# Altium integrated library TI Interface Line Transceiver.IntLib: 631 symbols (part 13 of 17)
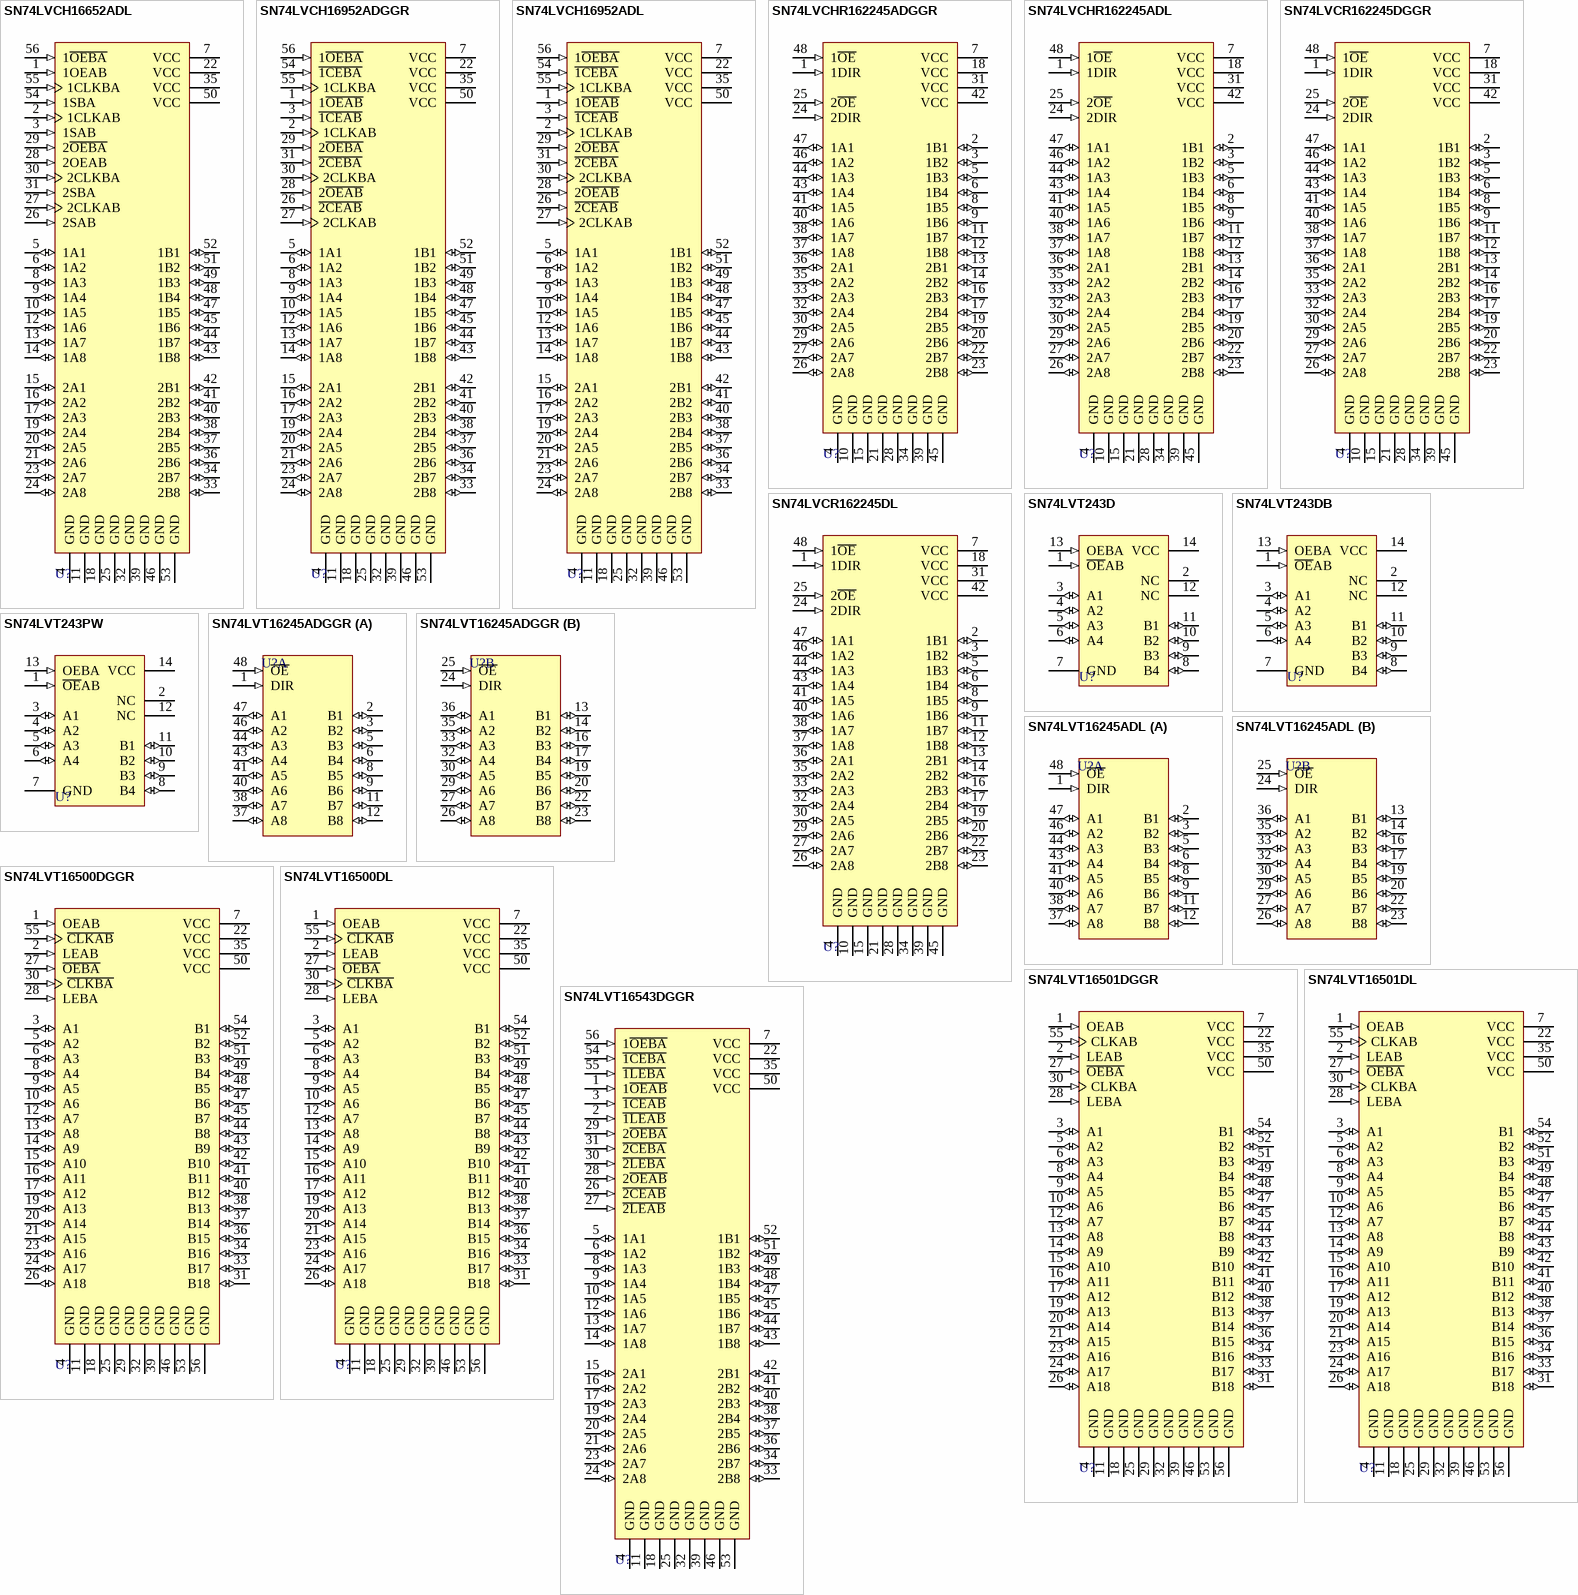
[diagram p51: symbols SN74LVCH16652ADL to SN74LVT16543DGGR]

## SN74LVT16500DGGR
designator U?
3.3-V ABT 18-Bit Universal Bus Transceiver with 3-State Outputs; Published: 8-Jun-2000; LatestRevisionDate: 04-Mar-2005; LatestRevisionNote: Stylized 3D Model Added.; DatasheetVersion: Nov-1996; PackageVersion: Jan-1998; PackageReference: DGG056; Publisher: Altium Limited; PackageDescription: Shrink Small Outline; 56 Leads; Body Width 6.1 mm; Pitch 0.5 mm; ComponentLink1Description: Manufacturer Link; ComponentLink1URL: http://www.ti.com/; ComponentLink2Description: Datasheet; ComponentLink2URL: http://www-s.ti.com/sc/ds/sn74lvt16500.pdf
footprint DGG056 (Shrink Small Outline; 56 Leads; Body Width 6.1 mm; Pitch 0.5 mm)
3D model DGG056 (Shrink Small Outline; 56 Leads; Body Width 6.1 mm; Pitch 0.5 mm)
signal-integrity model SN74LVT16500DGGR
pins: 1 OEAB (in), 2 LEAB (in), 3 A1 (io), 4 GND (power), 5 A2 (io), 6 A3 (io), 7 VCC (power), 8 A4 (io), 9 A5 (io), 10 A6 (io), 11 GND (power), 12 A7 (io), 13 A8 (io), 14 A9 (io), 15 A10 (io), 16 A11 (io), 17 A12 (io), 18 GND (power), 19 A13 (io), 20 A14 (io), 21 A15 (io), 22 VCC (power), 23 A16 (io), 24 A17 (io), 25 GND (power), 26 A18 (io), 27 ~{OEBA} (in), 28 LEBA (in), 29 GND (power), 30 ~{CLKBA} (in), 31 B18 (io), 32 GND (power), 33 B17 (io), 34 B16 (io), 35 VCC (power), 36 B15 (io), 37 B14 (io), 38 B13 (io), 39 GND (power), 40 B12 (io), 41 B11 (io), 42 B10 (io), 43 B9 (io), 44 B8 (io), 45 B7 (io), 46 GND (power), 47 B6 (io), 48 B5 (io), 49 B4 (io), 50 VCC (power), 51 B3 (io), 52 B2 (io), 53 GND (power), 54 B1 (io), 55 ~{CLKAB} (in), 56 GND (power)

## SN74LVT16500DL
designator U?
3.3-V ABT 18-Bit Universal Bus Transceiver with 3-State Outputs; Published: 8-Jun-2000; LatestRevisionDate: 04-Mar-2005; LatestRevisionNote: Stylized 3D Model Added.; DatasheetVersion: Nov-1996; PackageVersion: Dec-2001; PackageReference: DL056; Publisher: Altium Limited; PackageDescription: SSOP; 56 Leads; Body Width 7.5 mm; Pitch 0.635 mm; Code_JEDEC: MO-118-AB; Code_IPC: SSO56; ComponentLink1Description: Manufacturer Link; ComponentLink1URL: http://www.ti.com/; ComponentLink2Description: Datasheet; ComponentLink2URL: http://www-s.ti.com/sc/ds/sn74lvt16500.pdf
footprint DL056 (SSOP; 56 Leads; Body Width 7.5 mm; Pitch 0.635 mm)
3D model DL056 (SSOP; 56 Leads; Body Width 7.5 mm; Pitch 0.635 mm)
signal-integrity model SN74LVT16500DL
pins: 1 OEAB (in), 2 LEAB (in), 3 A1 (io), 4 GND (power), 5 A2 (io), 6 A3 (io), 7 VCC (power), 8 A4 (io), 9 A5 (io), 10 A6 (io), 11 GND (power), 12 A7 (io), 13 A8 (io), 14 A9 (io), 15 A10 (io), 16 A11 (io), 17 A12 (io), 18 GND (power), 19 A13 (io), 20 A14 (io), 21 A15 (io), 22 VCC (power), 23 A16 (io), 24 A17 (io), 25 GND (power), 26 A18 (io), 27 ~{OEBA} (in), 28 LEBA (in), 29 GND (power), 30 ~{CLKBA} (in), 31 B18 (io), 32 GND (power), 33 B17 (io), 34 B16 (io), 35 VCC (power), 36 B15 (io), 37 B14 (io), 38 B13 (io), 39 GND (power), 40 B12 (io), 41 B11 (io), 42 B10 (io), 43 B9 (io), 44 B8 (io), 45 B7 (io), 46 GND (power), 47 B6 (io), 48 B5 (io), 49 B4 (io), 50 VCC (power), 51 B3 (io), 52 B2 (io), 53 GND (power), 54 B1 (io), 55 ~{CLKAB} (in), 56 GND (power)

## SN74LVT16501DGGR
designator U?
3.3-V ABT 18-Bit Universal Bus Transceiver with 3-State Outputs; Published: 8-Jun-2000; LatestRevisionDate: 04-Mar-2005; LatestRevisionNote: Stylized 3D Model Added.; DatasheetVersion: Nov-1996; PackageVersion: Jan-1998; PackageReference: DGG056; Publisher: Altium Limited; PackageDescription: Shrink Small Outline; 56 Leads; Body Width 6.1 mm; Pitch 0.5 mm; ComponentLink1Description: Manufacturer Link; ComponentLink1URL: http://www.ti.com/; ComponentLink2Description: Datasheet; ComponentLink2URL: http://www-s.ti.com/sc/ds/sn74lvt16501.pdf
footprint DGG056 (Shrink Small Outline; 56 Leads; Body Width 6.1 mm; Pitch 0.5 mm)
3D model DGG056 (Shrink Small Outline; 56 Leads; Body Width 6.1 mm; Pitch 0.5 mm)
signal-integrity model SN74LVT16501DGGR
pins: 1 OEAB (in), 2 LEAB (in), 3 A1 (io), 4 GND (power), 5 A2 (io), 6 A3 (io), 7 VCC (power), 8 A4 (io), 9 A5 (io), 10 A6 (io), 11 GND (power), 12 A7 (io), 13 A8 (io), 14 A9 (io), 15 A10 (io), 16 A11 (io), 17 A12 (io), 18 GND (power), 19 A13 (io), 20 A14 (io), 21 A15 (io), 22 VCC (power), 23 A16 (io), 24 A17 (io), 25 GND (power), 26 A18 (io), 27 ~{OEBA} (in), 28 LEBA (in), 29 GND (power), 30 CLKBA (in), 31 B18 (io), 32 GND (power), 33 B17 (io), 34 B16 (io), 35 VCC (power), 36 B15 (io), 37 B14 (io), 38 B13 (io), 39 GND (power), 40 B12 (io), 41 B11 (io), 42 B10 (io), 43 B9 (io), 44 B8 (io), 45 B7 (io), 46 GND (power), 47 B6 (io), 48 B5 (io), 49 B4 (io), 50 VCC (power), 51 B3 (io), 52 B2 (io), 53 GND (power), 54 B1 (io), 55 CLKAB (in), 56 GND (power)

## SN74LVT16501DL
designator U?
3.3-V ABT 18-Bit Universal Bus Transceiver with 3-State Outputs; Published: 8-Jun-2000; LatestRevisionDate: 04-Mar-2005; LatestRevisionNote: Stylized 3D Model Added.; DatasheetVersion: Nov-1996; PackageVersion: Dec-2001; PackageReference: DL056; Publisher: Altium Limited; PackageDescription: SSOP; 56 Leads; Body Width 7.5 mm; Pitch 0.635 mm; Code_JEDEC: MO-118-AB; Code_IPC: SSO56; ComponentLink1Description: Manufacturer Link; ComponentLink1URL: http://www.ti.com/; ComponentLink2Description: Datasheet; ComponentLink2URL: http://www-s.ti.com/sc/ds/sn74lvt16501.pdf
footprint DL056 (SSOP; 56 Leads; Body Width 7.5 mm; Pitch 0.635 mm)
3D model DL056 (SSOP; 56 Leads; Body Width 7.5 mm; Pitch 0.635 mm)
signal-integrity model SN74LVT16501DL
pins: 1 OEAB (in), 2 LEAB (in), 3 A1 (io), 4 GND (power), 5 A2 (io), 6 A3 (io), 7 VCC (power), 8 A4 (io), 9 A5 (io), 10 A6 (io), 11 GND (power), 12 A7 (io), 13 A8 (io), 14 A9 (io), 15 A10 (io), 16 A11 (io), 17 A12 (io), 18 GND (power), 19 A13 (io), 20 A14 (io), 21 A15 (io), 22 VCC (power), 23 A16 (io), 24 A17 (io), 25 GND (power), 26 A18 (io), 27 ~{OEBA} (in), 28 LEBA (in), 29 GND (power), 30 CLKBA (in), 31 B18 (io), 32 GND (power), 33 B17 (io), 34 B16 (io), 35 VCC (power), 36 B15 (io), 37 B14 (io), 38 B13 (io), 39 GND (power), 40 B12 (io), 41 B11 (io), 42 B10 (io), 43 B9 (io), 44 B8 (io), 45 B7 (io), 46 GND (power), 47 B6 (io), 48 B5 (io), 49 B4 (io), 50 VCC (power), 51 B3 (io), 52 B2 (io), 53 GND (power), 54 B1 (io), 55 CLKAB (in), 56 GND (power)

## SN74LVT16543DGGR
designator U?
3.3-V ABT 16-Bit Registered Transceiver with 3-State Outputs; Published: 8-Jun-2000; LatestRevisionDate: 04-Mar-2005; LatestRevisionNote: Stylized 3D Model Added.; DatasheetVersion: Jul-1995; PackageVersion: Jan-1998; PackageReference: DGG056; Publisher: Altium Limited; PackageDescription: Shrink Small Outline; 56 Leads; Body Width 6.1 mm; Pitch 0.5 mm; ComponentLink1Description: Manufacturer Link; ComponentLink1URL: http://www.ti.com/; ComponentLink2Description: Datasheet; ComponentLink2URL: http://www-s.ti.com/sc/ds/sn74lvt16543.pdf; ComponentLink3Description: URL Link1; ComponentLink3URL: http://focus.ti.com/docs/prod/folders/print/sn74lvt16543.html
footprint DGG056 (Shrink Small Outline; 56 Leads; Body Width 6.1 mm; Pitch 0.5 mm)
3D model DGG056 (Shrink Small Outline; 56 Leads; Body Width 6.1 mm; Pitch 0.5 mm)
signal-integrity model SN74LVT16543DGGR
pins: 1 1~{OEAB} (in), 2 ~{1LEAB} (in), 3 ~{1CEAB} (in), 4 GND (power), 5 1A1 (io), 6 1A2 (io), 7 VCC (power), 8 1A3 (io), 9 1A4 (io), 10 1A5 (io), 11 GND (power), 12 1A6 (io), 13 1A7 (io), 14 1A8 (io), 15 2A1 (io), 16 2A2 (io), 17 2A3 (io), 18 GND (power), 19 2A4 (io), 20 2A5 (io), 21 2A6 (io), 22 VCC (power), 23 2A7 (io), 24 2A8 (io), 25 GND (power), 26 ~{2CEAB} (in), 27 ~{2LEAB} (in), 28 2~{OEAB} (in), 29 2~{OEBA} (in), 30 ~{2LEBA} (in), 31 ~{2CEBA} (in), 32 GND (power), 33 2B8 (io), 34 2B7 (io), 35 VCC (power), 36 2B6 (io), 37 2B5 (io), 38 2B4 (io), 39 GND (power), 40 2B3 (io), 41 2B2 (io), 42 2B1 (io), 43 1B8 (io), 44 1B7 (io), 45 1B6 (io), 46 GND (power), 47 1B5 (io), 48 1B4 (io), 49 1B3 (io), 50 VCC (power), 51 1B2 (io), 52 1B1 (io), 53 GND (power), 54 ~{1CEBA} (in), 55 ~{1LEBA} (in), 56 1~{OEBA} (in)

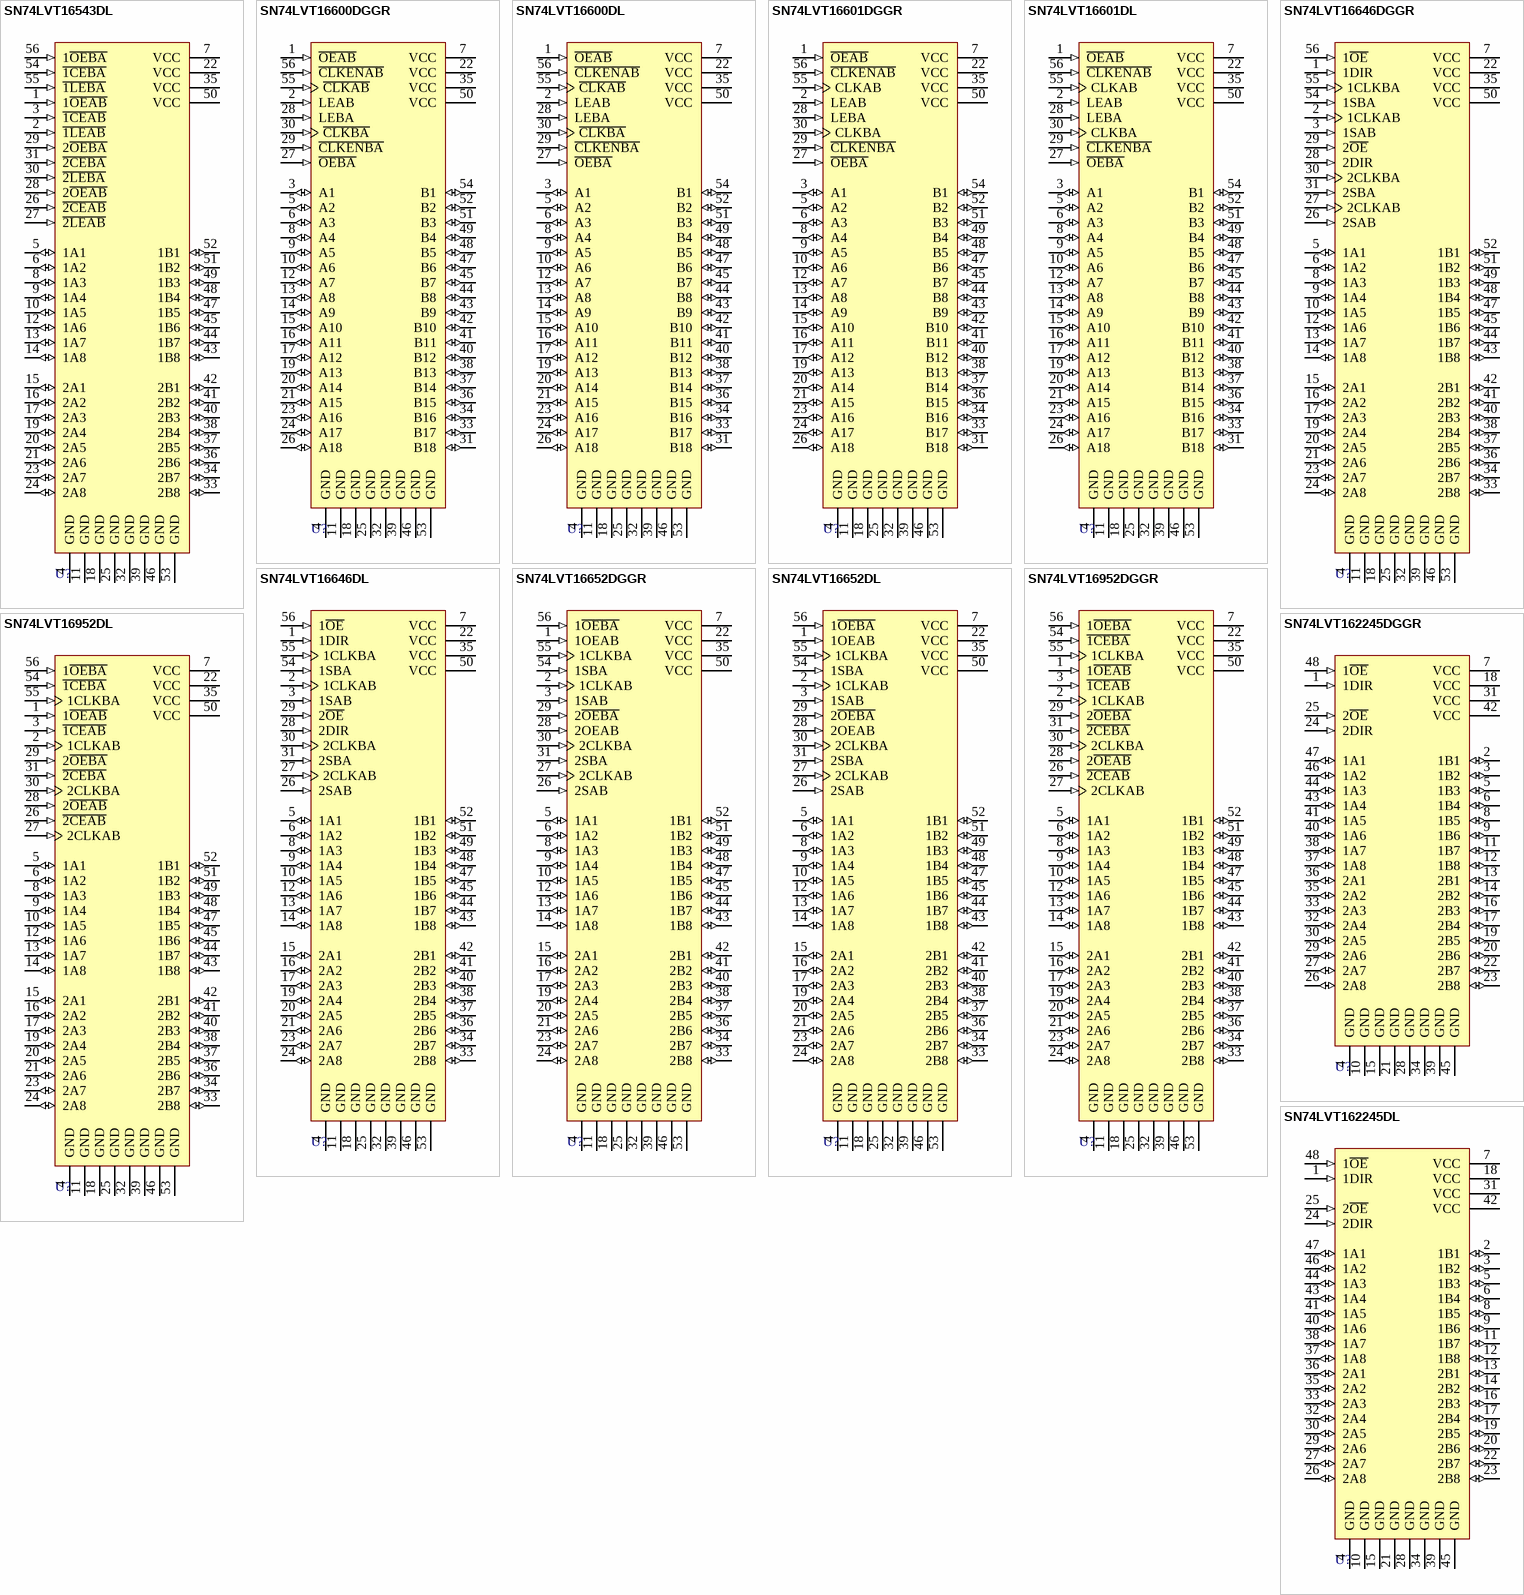
[diagram p28: symbols SN74LVT16543DL to SN74LVT162245DL]

## SN74LVT16543DL
designator U?
3.3-V ABT 16-Bit Registered Transceiver with 3-State Outputs; Published: 8-Jun-2000; LatestRevisionDate: 04-Mar-2005; LatestRevisionNote: Stylized 3D Model Added.; DatasheetVersion: Jul-1995; PackageVersion: Dec-2001; PackageReference: DL056; Publisher: Altium Limited; PackageDescription: SSOP; 56 Leads; Body Width 7.5 mm; Pitch 0.635 mm; Code_JEDEC: MO-118-AB; Code_IPC: SSO56; ComponentLink1Description: Manufacturer Link; ComponentLink1URL: http://www.ti.com/; ComponentLink2Description: Datasheet; ComponentLink2URL: http://www-s.ti.com/sc/ds/sn74lvt16543.pdf; ComponentLink3Description: URL Link1; ComponentLink3URL: http://focus.ti.com/docs/prod/folders/print/sn74lvt16543.html
footprint DL056 (SSOP; 56 Leads; Body Width 7.5 mm; Pitch 0.635 mm)
3D model DL056 (SSOP; 56 Leads; Body Width 7.5 mm; Pitch 0.635 mm)
signal-integrity model SN74LVT16543DL
pins: 1 1~{OEAB} (in), 2 ~{1LEAB} (in), 3 ~{1CEAB} (in), 4 GND (power), 5 1A1 (io), 6 1A2 (io), 7 VCC (power), 8 1A3 (io), 9 1A4 (io), 10 1A5 (io), 11 GND (power), 12 1A6 (io), 13 1A7 (io), 14 1A8 (io), 15 2A1 (io), 16 2A2 (io), 17 2A3 (io), 18 GND (power), 19 2A4 (io), 20 2A5 (io), 21 2A6 (io), 22 VCC (power), 23 2A7 (io), 24 2A8 (io), 25 GND (power), 26 ~{2CEAB} (in), 27 ~{2LEAB} (in), 28 2~{OEAB} (in), 29 2~{OEBA} (in), 30 ~{2LEBA} (in), 31 ~{2CEBA} (in), 32 GND (power), 33 2B8 (io), 34 2B7 (io), 35 VCC (power), 36 2B6 (io), 37 2B5 (io), 38 2B4 (io), 39 GND (power), 40 2B3 (io), 41 2B2 (io), 42 2B1 (io), 43 1B8 (io), 44 1B7 (io), 45 1B6 (io), 46 GND (power), 47 1B5 (io), 48 1B4 (io), 49 1B3 (io), 50 VCC (power), 51 1B2 (io), 52 1B1 (io), 53 GND (power), 54 ~{1CEBA} (in), 55 ~{1LEBA} (in), 56 1~{OEBA} (in)

## SN74LVT16600DGGR
designator U?
3.3-V ABT 18-Bit Universal Bus Transceiver with 3-State Outputs; Published: 8-Jun-2000; LatestRevisionDate: 04-Mar-2005; LatestRevisionNote: Stylized 3D Model Added.; DatasheetVersion: Jul-1995; PackageVersion: Jan-1998; PackageReference: DGG056; Publisher: Altium Limited; PackageDescription: Shrink Small Outline; 56 Leads; Body Width 6.1 mm; Pitch 0.5 mm; ComponentLink1Description: Manufacturer Link; ComponentLink1URL: http://www.ti.com/
footprint DGG056 (Shrink Small Outline; 56 Leads; Body Width 6.1 mm; Pitch 0.5 mm)
3D model DGG056 (Shrink Small Outline; 56 Leads; Body Width 6.1 mm; Pitch 0.5 mm)
signal-integrity model SN74LVT16600DGGR
pins: 1 ~{OEAB} (in), 2 LEAB (in), 3 A1 (io), 4 GND (power), 5 A2 (io), 6 A3 (io), 7 VCC (power), 8 A4 (io), 9 A5 (io), 10 A6 (io), 11 GND (power), 12 A7 (io), 13 A8 (io), 14 A9 (io), 15 A10 (io), 16 A11 (io), 17 A12 (io), 18 GND (power), 19 A13 (io), 20 A14 (io), 21 A15 (io), 22 VCC (power), 23 A16 (io), 24 A17 (io), 25 GND (power), 26 A18 (io), 27 ~{OEBA} (in), 28 LEBA (in), 29 ~{CLKENBA} (in), 30 ~{CLKBA} (in), 31 B18 (io), 32 GND (power), 33 B17 (io), 34 B16 (io), 35 VCC (power), 36 B15 (io), 37 B14 (io), 38 B13 (io), 39 GND (power), 40 B12 (io), 41 B11 (io), 42 B10 (io), 43 B9 (io), 44 B8 (io), 45 B7 (io), 46 GND (power), 47 B6 (io), 48 B5 (io), 49 B4 (io), 50 VCC (power), 51 B3 (io), 52 B2 (io), 53 GND (power), 54 B1 (io), 55 ~{CLKAB} (in), 56 ~{CLKENAB} (in)

## SN74LVT16600DL
designator U?
3.3-V ABT 18-Bit Universal Bus Transceiver with 3-State Outputs; Published: 8-Jun-2000; LatestRevisionDate: 04-Mar-2005; LatestRevisionNote: Stylized 3D Model Added.; DatasheetVersion: Jul-1995; PackageVersion: Dec-2001; PackageReference: DL056; Publisher: Altium Limited; PackageDescription: SSOP; 56 Leads; Body Width 7.5 mm; Pitch 0.635 mm; Code_JEDEC: MO-118-AB; Code_IPC: SSO56; ComponentLink1Description: Manufacturer Link; ComponentLink1URL: http://www.ti.com/
footprint DL056 (SSOP; 56 Leads; Body Width 7.5 mm; Pitch 0.635 mm)
3D model DL056 (SSOP; 56 Leads; Body Width 7.5 mm; Pitch 0.635 mm)
signal-integrity model SN74LVT16600DL
pins: 1 ~{OEAB} (in), 2 LEAB (in), 3 A1 (io), 4 GND (power), 5 A2 (io), 6 A3 (io), 7 VCC (power), 8 A4 (io), 9 A5 (io), 10 A6 (io), 11 GND (power), 12 A7 (io), 13 A8 (io), 14 A9 (io), 15 A10 (io), 16 A11 (io), 17 A12 (io), 18 GND (power), 19 A13 (io), 20 A14 (io), 21 A15 (io), 22 VCC (power), 23 A16 (io), 24 A17 (io), 25 GND (power), 26 A18 (io), 27 ~{OEBA} (in), 28 LEBA (in), 29 ~{CLKENBA} (in), 30 ~{CLKBA} (in), 31 B18 (io), 32 GND (power), 33 B17 (io), 34 B16 (io), 35 VCC (power), 36 B15 (io), 37 B14 (io), 38 B13 (io), 39 GND (power), 40 B12 (io), 41 B11 (io), 42 B10 (io), 43 B9 (io), 44 B8 (io), 45 B7 (io), 46 GND (power), 47 B6 (io), 48 B5 (io), 49 B4 (io), 50 VCC (power), 51 B3 (io), 52 B2 (io), 53 GND (power), 54 B1 (io), 55 ~{CLKAB} (in), 56 ~{CLKENAB} (in)

## SN74LVT16601DGGR
designator U?
3.3-V ABT 18-Bit Universal Bus Transceiver with 3-State Outputs; Published: 8-Jun-2000; LatestRevisionDate: 04-Mar-2005; LatestRevisionNote: Stylized 3D Model Added.; DatasheetVersion: Jul-1995; PackageVersion: Jan-1998; PackageReference: DGG056; Publisher: Altium Limited; PackageDescription: Shrink Small Outline; 56 Leads; Body Width 6.1 mm; Pitch 0.5 mm; ComponentLink1Description: Manufacturer Link; ComponentLink1URL: http://www.ti.com/
footprint DGG056 (Shrink Small Outline; 56 Leads; Body Width 6.1 mm; Pitch 0.5 mm)
3D model DGG056 (Shrink Small Outline; 56 Leads; Body Width 6.1 mm; Pitch 0.5 mm)
signal-integrity model SN74LVT16601DGGR
pins: 1 ~{OEAB} (in), 2 LEAB (in), 3 A1 (io), 4 GND (power), 5 A2 (io), 6 A3 (io), 7 VCC (power), 8 A4 (io), 9 A5 (io), 10 A6 (io), 11 GND (power), 12 A7 (io), 13 A8 (io), 14 A9 (io), 15 A10 (io), 16 A11 (io), 17 A12 (io), 18 GND (power), 19 A13 (io), 20 A14 (io), 21 A15 (io), 22 VCC (power), 23 A16 (io), 24 A17 (io), 25 GND (power), 26 A18 (io), 27 ~{OEBA} (in), 28 LEBA (in), 29 ~{CLKENBA} (in), 30 CLKBA (in), 31 B18 (io), 32 GND (power), 33 B17 (io), 34 B16 (io), 35 VCC (power), 36 B15 (io), 37 B14 (io), 38 B13 (io), 39 GND (power), 40 B12 (io), 41 B11 (io), 42 B10 (io), 43 B9 (io), 44 B8 (io), 45 B7 (io), 46 GND (power), 47 B6 (io), 48 B5 (io), 49 B4 (io), 50 VCC (power), 51 B3 (io), 52 B2 (io), 53 GND (power), 54 B1 (io), 55 CLKAB (in), 56 ~{CLKENAB} (in)

## SN74LVT16601DL
designator U?
3.3-V ABT 18-Bit Universal Bus Transceiver with 3-State Outputs; Published: 8-Jun-2000; LatestRevisionDate: 04-Mar-2005; LatestRevisionNote: Stylized 3D Model Added.; DatasheetVersion: Jul-1995; PackageVersion: Dec-2001; PackageReference: DL056; Publisher: Altium Limited; PackageDescription: SSOP; 56 Leads; Body Width 7.5 mm; Pitch 0.635 mm; Code_JEDEC: MO-118-AB; Code_IPC: SSO56; ComponentLink1Description: Manufacturer Link; ComponentLink1URL: http://www.ti.com/
footprint DL056 (SSOP; 56 Leads; Body Width 7.5 mm; Pitch 0.635 mm)
3D model DL056 (SSOP; 56 Leads; Body Width 7.5 mm; Pitch 0.635 mm)
signal-integrity model SN74LVT16601DL
pins: 1 ~{OEAB} (in), 2 LEAB (in), 3 A1 (io), 4 GND (power), 5 A2 (io), 6 A3 (io), 7 VCC (power), 8 A4 (io), 9 A5 (io), 10 A6 (io), 11 GND (power), 12 A7 (io), 13 A8 (io), 14 A9 (io), 15 A10 (io), 16 A11 (io), 17 A12 (io), 18 GND (power), 19 A13 (io), 20 A14 (io), 21 A15 (io), 22 VCC (power), 23 A16 (io), 24 A17 (io), 25 GND (power), 26 A18 (io), 27 ~{OEBA} (in), 28 LEBA (in), 29 ~{CLKENBA} (in), 30 CLKBA (in), 31 B18 (io), 32 GND (power), 33 B17 (io), 34 B16 (io), 35 VCC (power), 36 B15 (io), 37 B14 (io), 38 B13 (io), 39 GND (power), 40 B12 (io), 41 B11 (io), 42 B10 (io), 43 B9 (io), 44 B8 (io), 45 B7 (io), 46 GND (power), 47 B6 (io), 48 B5 (io), 49 B4 (io), 50 VCC (power), 51 B3 (io), 52 B2 (io), 53 GND (power), 54 B1 (io), 55 CLKAB (in), 56 ~{CLKENAB} (in)

## SN74LVT16646DGGR
designator U?
3.3-V ABT 16-Bit Bus Transceiver with 3-State Outputs; Published: 8-Jun-2000; LatestRevisionDate: 04-Mar-2005; LatestRevisionNote: Stylized 3D Model Added.; DatasheetVersion: Jul-1995; PackageVersion: Jan-1998; PackageReference: DGG056; Publisher: Altium Limited; PackageDescription: Shrink Small Outline; 56 Leads; Body Width 6.1 mm; Pitch 0.5 mm; ComponentLink1Description: Manufacturer Link; ComponentLink1URL: http://www.ti.com/; ComponentLink2Description: Datasheet; ComponentLink2URL: http://www-s.ti.com/sc/ds/sn74lvt16646.pdf
footprint DGG056 (Shrink Small Outline; 56 Leads; Body Width 6.1 mm; Pitch 0.5 mm)
3D model DGG056 (Shrink Small Outline; 56 Leads; Body Width 6.1 mm; Pitch 0.5 mm)
signal-integrity model SN74LVT16646DGGR
pins: 1 1DIR (in), 2 1CLKAB (in), 3 1SAB (in), 4 GND (power), 5 1A1 (io), 6 1A2 (io), 7 VCC (power), 8 1A3 (io), 9 1A4 (io), 10 1A5 (io), 11 GND (power), 12 1A6 (io), 13 1A7 (io), 14 1A8 (io), 15 2A1 (io), 16 2A2 (io), 17 2A3 (io), 18 GND (power), 19 2A4 (io), 20 2A5 (io), 21 2A6 (io), 22 VCC (power), 23 2A7 (io), 24 2A8 (io), 25 GND (power), 26 2SAB (in), 27 2CLKAB (in), 28 2DIR (in), 29 2~{OE} (in), 30 2CLKBA (in), 31 2SBA (in), 32 GND (power), 33 2B8 (io), 34 2B7 (io), 35 VCC (power), 36 2B6 (io), 37 2B5 (io), 38 2B4 (io), 39 GND (power), 40 2B3 (io), 41 2B2 (io), 42 2B1 (io), 43 1B8 (io), 44 1B7 (io), 45 1B6 (io), 46 GND (power), 47 1B5 (io), 48 1B4 (io), 49 1B3 (io), 50 VCC (power), 51 1B2 (io), 52 1B1 (io), 53 GND (power), 54 1SBA (in), 55 1CLKBA (in), 56 1~{OE} (in)

## SN74LVT16646DL
designator U?
3.3-V ABT 16-Bit Bus Transceiver with 3-State Outputs; Published: 8-Jun-2000; LatestRevisionDate: 04-Mar-2005; LatestRevisionNote: Stylized 3D Model Added.; DatasheetVersion: Jul-1995; PackageVersion: Dec-2001; PackageReference: DL056; Publisher: Altium Limited; PackageDescription: SSOP; 56 Leads; Body Width 7.5 mm; Pitch 0.635 mm; Code_JEDEC: MO-118-AB; Code_IPC: SSO56; ComponentLink1Description: Manufacturer Link; ComponentLink1URL: http://www.ti.com/; ComponentLink2Description: Datasheet; ComponentLink2URL: http://www-s.ti.com/sc/ds/sn74lvt16646.pdf
footprint DL056 (SSOP; 56 Leads; Body Width 7.5 mm; Pitch 0.635 mm)
3D model DL056 (SSOP; 56 Leads; Body Width 7.5 mm; Pitch 0.635 mm)
signal-integrity model SN74LVT16646DL
pins: 1 1DIR (in), 2 1CLKAB (in), 3 1SAB (in), 4 GND (power), 5 1A1 (io), 6 1A2 (io), 7 VCC (power), 8 1A3 (io), 9 1A4 (io), 10 1A5 (io), 11 GND (power), 12 1A6 (io), 13 1A7 (io), 14 1A8 (io), 15 2A1 (io), 16 2A2 (io), 17 2A3 (io), 18 GND (power), 19 2A4 (io), 20 2A5 (io), 21 2A6 (io), 22 VCC (power), 23 2A7 (io), 24 2A8 (io), 25 GND (power), 26 2SAB (in), 27 2CLKAB (in), 28 2DIR (in), 29 2~{OE} (in), 30 2CLKBA (in), 31 2SBA (in), 32 GND (power), 33 2B8 (io), 34 2B7 (io), 35 VCC (power), 36 2B6 (io), 37 2B5 (io), 38 2B4 (io), 39 GND (power), 40 2B3 (io), 41 2B2 (io), 42 2B1 (io), 43 1B8 (io), 44 1B7 (io), 45 1B6 (io), 46 GND (power), 47 1B5 (io), 48 1B4 (io), 49 1B3 (io), 50 VCC (power), 51 1B2 (io), 52 1B1 (io), 53 GND (power), 54 1SBA (in), 55 1CLKBA (in), 56 1~{OE} (in)

## SN74LVT16652DGGR
designator U?
3.3-V ABT 16-Bit Transceiver and Register with 3-State Outputs; Published: 8-Jun-2000; LatestRevisionDate: 04-Mar-2005; LatestRevisionNote: Stylized 3D Model Added.; DatasheetVersion: Feb-1996; PackageVersion: Jan-1998; PackageReference: DGG056; Publisher: Altium Limited; PackageDescription: Shrink Small Outline; 56 Leads; Body Width 6.1 mm; Pitch 0.5 mm; ComponentLink1Description: Manufacturer Link; ComponentLink1URL: http://www.ti.com/
footprint DGG056 (Shrink Small Outline; 56 Leads; Body Width 6.1 mm; Pitch 0.5 mm)
3D model DGG056 (Shrink Small Outline; 56 Leads; Body Width 6.1 mm; Pitch 0.5 mm)
signal-integrity model SN74LVT16652DGGR
pins: 1 1OEAB (in), 2 1CLKAB (in), 3 1SAB (in), 4 GND (power), 5 1A1 (io), 6 1A2 (io), 7 VCC (power), 8 1A3 (io), 9 1A4 (io), 10 1A5 (io), 11 GND (power), 12 1A6 (io), 13 1A7 (io), 14 1A8 (io), 15 2A1 (io), 16 2A2 (io), 17 2A3 (io), 18 GND (power), 19 2A4 (io), 20 2A5 (io), 21 2A6 (io), 22 VCC (power), 23 2A7 (io), 24 2A8 (io), 25 GND (power), 26 2SAB (in), 27 2CLKAB (in), 28 2OEAB (in), 29 2~{OEBA} (in), 30 2CLKBA (in), 31 2SBA (in), 32 GND (power), 33 2B8 (io), 34 2B7 (io), 35 VCC (power), 36 2B6 (io), 37 2B5 (io), 38 2B4 (io), 39 GND (power), 40 2B3 (io), 41 2B2 (io), 42 2B1 (io), 43 1B8 (io), 44 1B7 (io), 45 1B6 (io), 46 GND (power), 47 1B5 (io), 48 1B4 (io), 49 1B3 (io), 50 VCC (power), 51 1B2 (io), 52 1B1 (io), 53 GND (power), 54 1SBA (in), 55 1CLKBA (in), 56 1~{OEBA} (in)

## SN74LVT16652DL
designator U?
3.3-V ABT 16-Bit Transceiver and Register with 3-State Outputs; Published: 8-Jun-2000; LatestRevisionDate: 04-Mar-2005; LatestRevisionNote: Stylized 3D Model Added.; DatasheetVersion: Feb-1996; PackageVersion: Dec-2001; PackageReference: DL056; Publisher: Altium Limited; PackageDescription: SSOP; 56 Leads; Body Width 7.5 mm; Pitch 0.635 mm; Code_JEDEC: MO-118-AB; Code_IPC: SSO56; ComponentLink1Description: Manufacturer Link; ComponentLink1URL: http://www.ti.com/
footprint DL056 (SSOP; 56 Leads; Body Width 7.5 mm; Pitch 0.635 mm)
3D model DL056 (SSOP; 56 Leads; Body Width 7.5 mm; Pitch 0.635 mm)
signal-integrity model SN74LVT16652DL
pins: 1 1OEAB (in), 2 1CLKAB (in), 3 1SAB (in), 4 GND (power), 5 1A1 (io), 6 1A2 (io), 7 VCC (power), 8 1A3 (io), 9 1A4 (io), 10 1A5 (io), 11 GND (power), 12 1A6 (io), 13 1A7 (io), 14 1A8 (io), 15 2A1 (io), 16 2A2 (io), 17 2A3 (io), 18 GND (power), 19 2A4 (io), 20 2A5 (io), 21 2A6 (io), 22 VCC (power), 23 2A7 (io), 24 2A8 (io), 25 GND (power), 26 2SAB (in), 27 2CLKAB (in), 28 2OEAB (in), 29 2~{OEBA} (in), 30 2CLKBA (in), 31 2SBA (in), 32 GND (power), 33 2B8 (io), 34 2B7 (io), 35 VCC (power), 36 2B6 (io), 37 2B5 (io), 38 2B4 (io), 39 GND (power), 40 2B3 (io), 41 2B2 (io), 42 2B1 (io), 43 1B8 (io), 44 1B7 (io), 45 1B6 (io), 46 GND (power), 47 1B5 (io), 48 1B4 (io), 49 1B3 (io), 50 VCC (power), 51 1B2 (io), 52 1B1 (io), 53 GND (power), 54 1SBA (in), 55 1CLKBA (in), 56 1~{OEBA} (in)

## SN74LVT16952DGGR
designator U?
3.3-V ABT 16-Bit Registered Transceiver with 3-State Outputs; Published: 8-Jun-2000; LatestRevisionDate: 04-Mar-2005; LatestRevisionNote: Stylized 3D Model Added.; DatasheetVersion: Aug-1996; PackageVersion: Jan-1998; PackageReference: DGG056; Publisher: Altium Limited; PackageDescription: Shrink Small Outline; 56 Leads; Body Width 6.1 mm; Pitch 0.5 mm; ComponentLink1Description: Manufacturer Link; ComponentLink1URL: http://www.ti.com/; ComponentLink2Description: Datasheet; ComponentLink2URL: http://www-s.ti.com/sc/ds/sn74lvt16952.pdf
footprint DGG056 (Shrink Small Outline; 56 Leads; Body Width 6.1 mm; Pitch 0.5 mm)
3D model DGG056 (Shrink Small Outline; 56 Leads; Body Width 6.1 mm; Pitch 0.5 mm)
signal-integrity model SN74LVT16952DGGR
pins: 1 1~{OEAB} (in), 2 1CLKAB (in), 3 ~{1CEAB} (in), 4 GND (power), 5 1A1 (io), 6 1A2 (io), 7 VCC (power), 8 1A3 (io), 9 1A4 (io), 10 1A5 (io), 11 GND (power), 12 1A6 (io), 13 1A7 (io), 14 1A8 (io), 15 2A1 (io), 16 2A2 (io), 17 2A3 (io), 18 GND (power), 19 2A4 (io), 20 2A5 (io), 21 2A6 (io), 22 VCC (power), 23 2A7 (io), 24 2A8 (io), 25 GND (power), 26 ~{2CEAB} (in), 27 2CLKAB (in), 28 2~{OEAB} (in), 29 2~{OEBA} (in), 30 2CLKBA (in), 31 ~{2CEBA} (in), 32 GND (power), 33 2B8 (io), 34 2B7 (io), 35 VCC (power), 36 2B6 (io), 37 2B5 (io), 38 2B4 (io), 39 GND (power), 40 2B3 (io), 41 2B2 (io), 42 2B1 (io), 43 1B8 (io), 44 1B7 (io), 45 1B6 (io), 46 GND (power), 47 1B5 (io), 48 1B4 (io), 49 1B3 (io), 50 VCC (power), 51 1B2 (io), 52 1B1 (io), 53 GND (power), 54 ~{1CEBA} (in), 55 1CLKBA (in), 56 1~{OEBA} (in)

## SN74LVT16952DL
designator U?
3.3-V ABT 16-Bit Registered Transceiver with 3-State Outputs; Published: 8-Jun-2000; LatestRevisionDate: 04-Mar-2005; LatestRevisionNote: Stylized 3D Model Added.; DatasheetVersion: Aug-1996; PackageVersion: Dec-2001; PackageReference: DL056; Publisher: Altium Limited; PackageDescription: SSOP; 56 Leads; Body Width 7.5 mm; Pitch 0.635 mm; Code_JEDEC: MO-118-AB; Code_IPC: SSO56; ComponentLink1Description: Manufacturer Link; ComponentLink1URL: http://www.ti.com/; ComponentLink2Description: Datasheet; ComponentLink2URL: http://www-s.ti.com/sc/ds/sn74lvt16952.pdf
footprint DL056 (SSOP; 56 Leads; Body Width 7.5 mm; Pitch 0.635 mm)
3D model DL056 (SSOP; 56 Leads; Body Width 7.5 mm; Pitch 0.635 mm)
signal-integrity model SN74LVT16952DL
pins: 1 1~{OEAB} (in), 2 1CLKAB (in), 3 ~{1CEAB} (in), 4 GND (power), 5 1A1 (io), 6 1A2 (io), 7 VCC (power), 8 1A3 (io), 9 1A4 (io), 10 1A5 (io), 11 GND (power), 12 1A6 (io), 13 1A7 (io), 14 1A8 (io), 15 2A1 (io), 16 2A2 (io), 17 2A3 (io), 18 GND (power), 19 2A4 (io), 20 2A5 (io), 21 2A6 (io), 22 VCC (power), 23 2A7 (io), 24 2A8 (io), 25 GND (power), 26 ~{2CEAB} (in), 27 2CLKAB (in), 28 2~{OEAB} (in), 29 2~{OEBA} (in), 30 2CLKBA (in), 31 ~{2CEBA} (in), 32 GND (power), 33 2B8 (io), 34 2B7 (io), 35 VCC (power), 36 2B6 (io), 37 2B5 (io), 38 2B4 (io), 39 GND (power), 40 2B3 (io), 41 2B2 (io), 42 2B1 (io), 43 1B8 (io), 44 1B7 (io), 45 1B6 (io), 46 GND (power), 47 1B5 (io), 48 1B4 (io), 49 1B3 (io), 50 VCC (power), 51 1B2 (io), 52 1B1 (io), 53 GND (power), 54 ~{1CEBA} (in), 55 1CLKBA (in), 56 1~{OEBA} (in)

## SN74LVT162245DGGR
designator U?
3.3-V ABT 16-Bit Bus Transceiver with 3-State Outputs; Published: 8-Jun-2000; LatestRevisionDate: 04-Mar-2005; LatestRevisionNote: Stylized 3D Model Added.; DatasheetVersion: Nov-1995; PackageVersion: Jan-1998; PackageReference: DGG048; Publisher: Altium Limited; PackageDescription: Shrink Small Outline; 48 Leads; Body Width 6.1 mm; Pitch 0.5 mm; ComponentLink1Description: Manufacturer Link; ComponentLink1URL: http://www.ti.com/; ComponentLink2Description: URL Link1; ComponentLink2URL: http://focus.ti.com/docs/prod/folders/print/sn74lvt162245.html
footprint DGG048 (Shrink Small Outline; 48 Leads; Body Width 6.1 mm; Pitch 0.5 mm)
3D model DGG048 (Shrink Small Outline; 48 Leads; Body Width 6.1 mm; Pitch 0.5 mm)
signal-integrity model SN74LVT162245DGGR
pins: 1 1DIR (in), 2 1B1 (io), 3 1B2 (io), 4 GND (power), 5 1B3 (io), 6 1B4 (io), 7 VCC (power), 8 1B5 (io), 9 1B6 (io), 10 GND (power), 11 1B7 (io), 12 1B8 (io), 13 2B1 (io), 14 2B2 (io), 15 GND (power), 16 2B3 (io), 17 2B4 (io), 18 VCC (power), 19 2B5 (io), 20 2B6 (io), 21 GND (power), 22 2B7 (io), 23 2B8 (io), 24 2DIR (in), 25 2~{OE} (in), 26 2A8 (io), 27 2A7 (io), 28 GND (power), 29 2A6 (io), 30 2A5 (io), 31 VCC (power), 32 2A4 (io), 33 2A3 (io), 34 GND (power), 35 2A2 (io), 36 2A1 (io), 37 1A8 (io), 38 1A7 (io), 39 GND (power), 40 1A6 (io), 41 1A5 (io), 42 VCC (power), 43 1A4 (io), 44 1A3 (io), 45 GND (power), 46 1A2 (io), 47 1A1 (io), 48 1~{OE} (in)

## SN74LVT162245DL
designator U?
3.3-V ABT 16-Bit Bus Transceiver with 3-State Outputs; Published: 8-Jun-2000; LatestRevisionDate: 04-Mar-2005; LatestRevisionNote: Stylized 3D Model Added.; DatasheetVersion: Nov-1995; PackageVersion: Dec-2001; PackageReference: DL048; Publisher: Altium Limited; PackageDescription: SSOP; 48 Leads; Body Width 7.5 mm; Pitch 0.635 mm; Code_JEDEC: MO-118-AA; Code_IPC: SSO48; ComponentLink1Description: Manufacturer Link; ComponentLink1URL: http://www.ti.com/; ComponentLink2Description: URL Link1; ComponentLink2URL: http://focus.ti.com/docs/prod/folders/print/sn74lvt162245.html
footprint DL048 (SSOP; 48 Leads; Body Width 7.5 mm; Pitch 0.635 mm)
3D model DL048 (SSOP; 48 Leads; Body Width 7.5 mm; Pitch 0.635 mm)
signal-integrity model SN74LVT162245DL
pins: 1 1DIR (in), 2 1B1 (io), 3 1B2 (io), 4 GND (power), 5 1B3 (io), 6 1B4 (io), 7 VCC (power), 8 1B5 (io), 9 1B6 (io), 10 GND (power), 11 1B7 (io), 12 1B8 (io), 13 2B1 (io), 14 2B2 (io), 15 GND (power), 16 2B3 (io), 17 2B4 (io), 18 VCC (power), 19 2B5 (io), 20 2B6 (io), 21 GND (power), 22 2B7 (io), 23 2B8 (io), 24 2DIR (in), 25 2~{OE} (in), 26 2A8 (io), 27 2A7 (io), 28 GND (power), 29 2A6 (io), 30 2A5 (io), 31 VCC (power), 32 2A4 (io), 33 2A3 (io), 34 GND (power), 35 2A2 (io), 36 2A1 (io), 37 1A8 (io), 38 1A7 (io), 39 GND (power), 40 1A6 (io), 41 1A5 (io), 42 VCC (power), 43 1A4 (io), 44 1A3 (io), 45 GND (power), 46 1A2 (io), 47 1A1 (io), 48 1~{OE} (in)

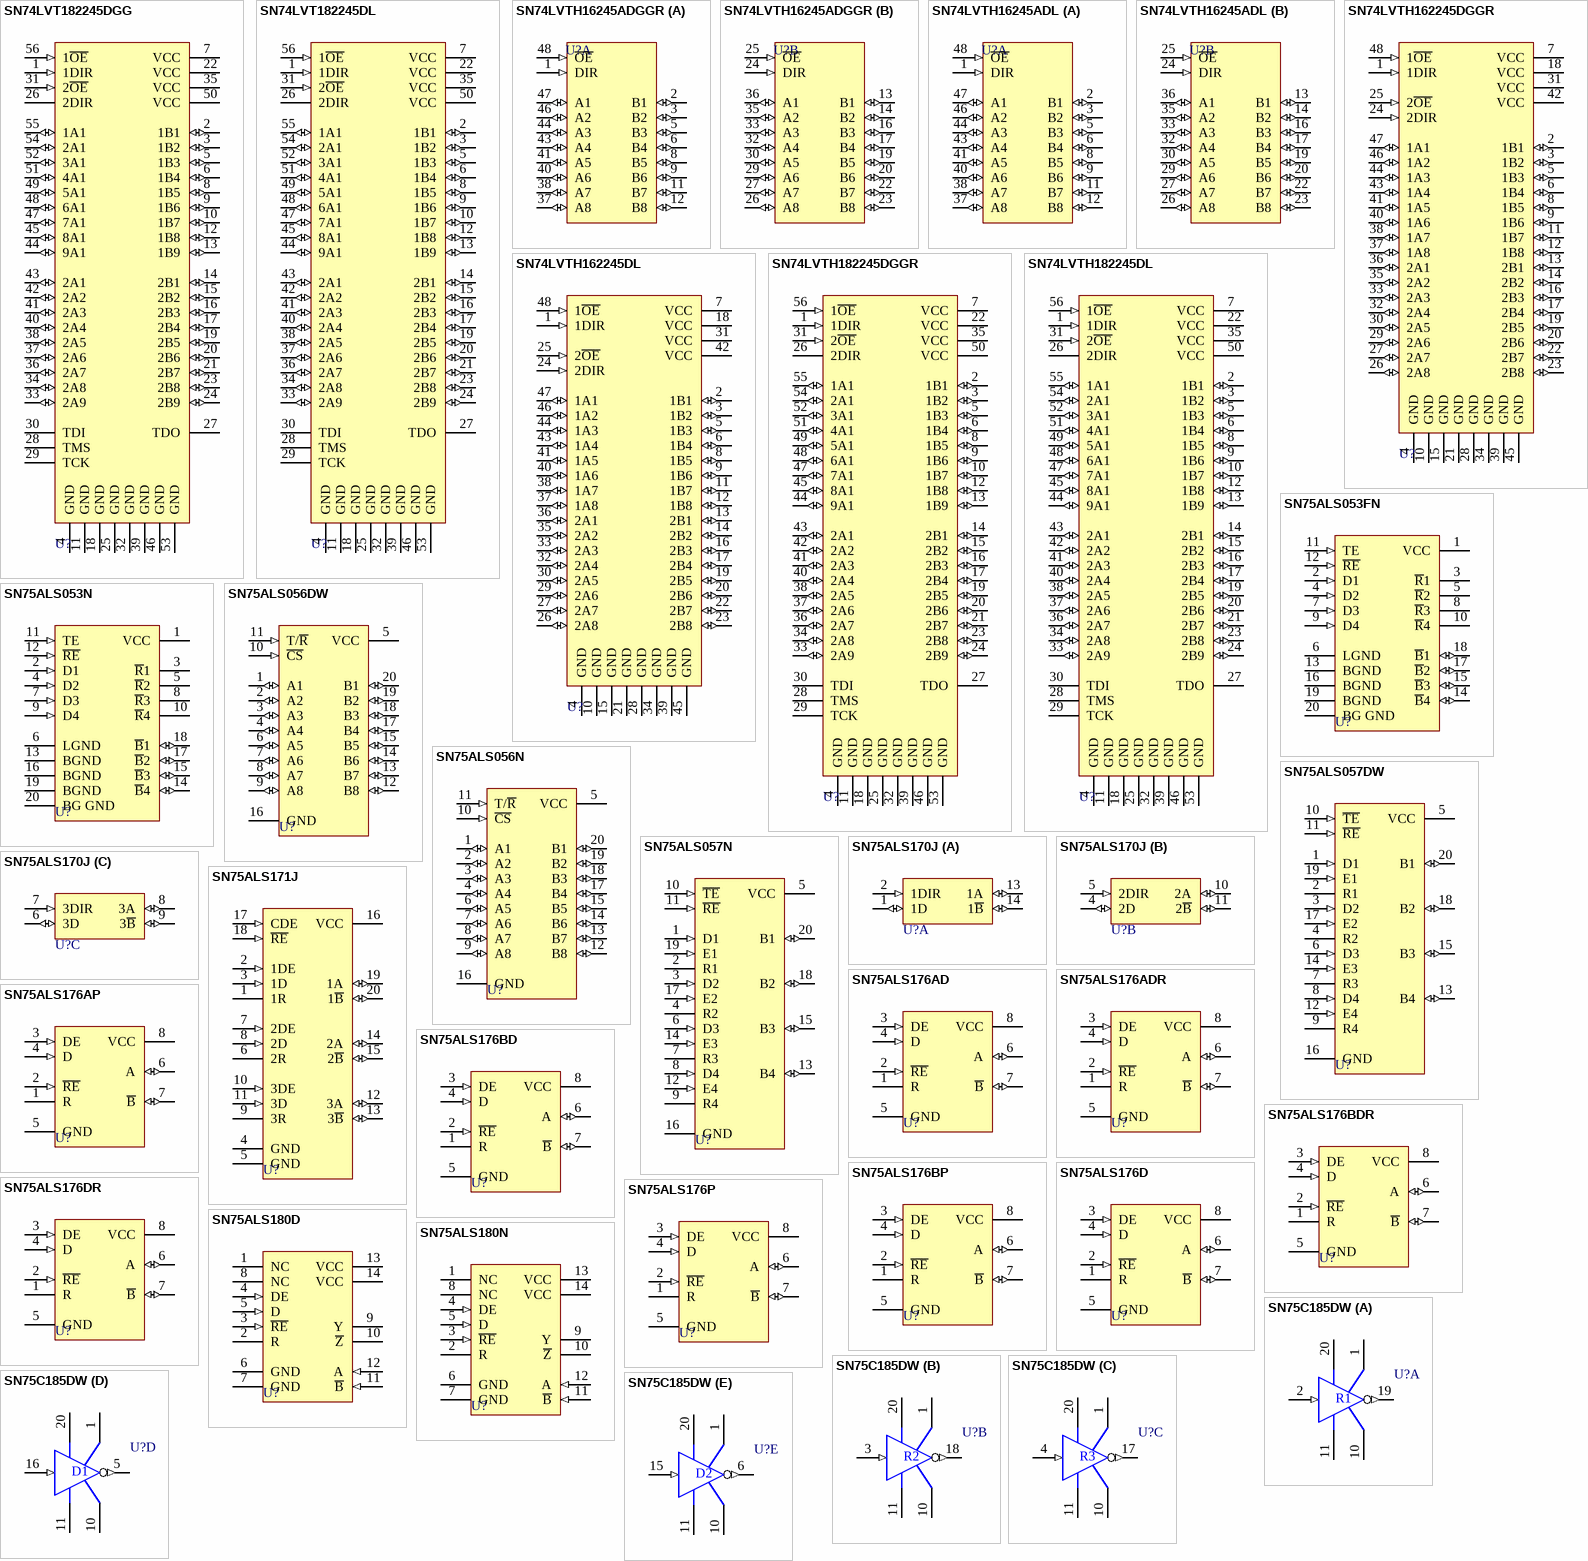
[diagram p29: symbols SN74LVT182245DGG to SN75C185DW]

## SN74LVT182245DGG
designator U?
3.3-V ABT Scan Test Device with 18-Bit Bus Transceiver; Published: 8-Jun-2000; LatestRevisionDate: 04-Mar-2005; LatestRevisionNote: Stylized 3D Model Added.; DatasheetVersion: Aug-1994; PackageVersion: Jan-1998; PackageReference: DGG056; Publisher: Altium Limited; PackageDescription: Shrink Small Outline; 56 Leads; Body Width 6.1 mm; Pitch 0.5 mm; ComponentLink1Description: Manufacturer Link; ComponentLink1URL: http://www.ti.com/
footprint DGG056 (Shrink Small Outline; 56 Leads; Body Width 6.1 mm; Pitch 0.5 mm)
3D model DGG056 (Shrink Small Outline; 56 Leads; Body Width 6.1 mm; Pitch 0.5 mm)
signal-integrity model SN74LVT182245DGG
pins: 1 1DIR (in), 2 1B1 (io), 3 1B2 (io), 4 GND (power), 5 1B3 (io), 6 1B4 (io), 7 VCC (power), 8 1B5 (io), 9 1B6 (io), 10 1B7 (io), 11 GND (power), 12 1B8 (io), 13 1B9 (io), 14 2B1 (io), 15 2B2 (io), 16 2B3 (io), 17 2B4 (io), 18 GND (power), 19 2B5 (io), 20 2B6 (io), 21 2B7 (io), 22 VCC (power), 23 2B8 (io), 24 2B9 (io), 25 GND (power), 26 2DIR, 27 TDO, 28 TMS, 29 TCK, 30 TDI, 31 2~{OE} (in), 32 GND (power), 33 2A9 (io), 34 2A8 (io), 35 VCC (power), 36 2A7 (io), 37 2A6 (io), 38 2A5 (io), 39 GND (power), 40 2A4 (io), 41 2A3 (io), 42 2A2 (io), 43 2A1 (io), 44 9A1 (io), 45 8A1 (io), 46 GND (power), 47 7A1 (io), 48 6A1 (io), 49 5A1 (io), 50 VCC (power), 51 4A1 (io), 52 3A1 (io), 53 GND (power), 54 2A1 (io), 55 1A1 (io), 56 1~{OE} (in)

## SN74LVT182245DL
designator U?
3.3-V ABT Scan Test Device with 18-Bit Bus Transceiver; Published: 8-Jun-2000; LatestRevisionDate: 04-Mar-2005; LatestRevisionNote: Stylized 3D Model Added.; DatasheetVersion: Aug-1994; PackageVersion: Dec-2001; PackageReference: DL056; Publisher: Altium Limited; PackageDescription: SSOP; 56 Leads; Body Width 7.5 mm; Pitch 0.635 mm; Code_JEDEC: MO-118-AB; Code_IPC: SSO56; ComponentLink1Description: Manufacturer Link; ComponentLink1URL: http://www.ti.com/
footprint DL056 (SSOP; 56 Leads; Body Width 7.5 mm; Pitch 0.635 mm)
3D model DL056 (SSOP; 56 Leads; Body Width 7.5 mm; Pitch 0.635 mm)
signal-integrity model SN74LVT182245DL
pins: 1 1DIR (in), 2 1B1 (io), 3 1B2 (io), 4 GND (power), 5 1B3 (io), 6 1B4 (io), 7 VCC (power), 8 1B5 (io), 9 1B6 (io), 10 1B7 (io), 11 GND (power), 12 1B8 (io), 13 1B9 (io), 14 2B1 (io), 15 2B2 (io), 16 2B3 (io), 17 2B4 (io), 18 GND (power), 19 2B5 (io), 20 2B6 (io), 21 2B7 (io), 22 VCC (power), 23 2B8 (io), 24 2B9 (io), 25 GND (power), 26 2DIR, 27 TDO, 28 TMS, 29 TCK, 30 TDI, 31 2~{OE} (in), 32 GND (power), 33 2A9 (io), 34 2A8 (io), 35 VCC (power), 36 2A7 (io), 37 2A6 (io), 38 2A5 (io), 39 GND (power), 40 2A4 (io), 41 2A3 (io), 42 2A2 (io), 43 2A1 (io), 44 9A1 (io), 45 8A1 (io), 46 GND (power), 47 7A1 (io), 48 6A1 (io), 49 5A1 (io), 50 VCC (power), 51 4A1 (io), 52 3A1 (io), 53 GND (power), 54 2A1 (io), 55 1A1 (io), 56 1~{OE} (in)

## SN74LVTH16245ADGGR
designator U?
3.3-V ABT 16-Bit Bus Transceiver with 3-State Outputs; Published: 8-Jun-2000; LatestRevisionDate: 04-Mar-2005; LatestRevisionNote: Stylized 3D Model Added.; DatasheetVersion: Apr-1999; PackageVersion: Jan-1998; PackageReference: DGG048; Publisher: Altium Limited; PackageDescription: Shrink Small Outline; 48 Leads; Body Width 6.1 mm; Pitch 0.5 mm; ComponentLink1Description: Manufacturer Link; ComponentLink1URL: http://www.ti.com/; ComponentLink2Description: Datasheet; ComponentLink2URL: http://www-s.ti.com/sc/ds/sn74lvth16245a.pdf
footprint DGG048 (Shrink Small Outline; 48 Leads; Body Width 6.1 mm; Pitch 0.5 mm)
3D model DGG048 (Shrink Small Outline; 48 Leads; Body Width 6.1 mm; Pitch 0.5 mm)
pins on every part: 4 GND (power) hidden to GND, 7 VCC (power) hidden to VCC, 10 GND (power) hidden to GND, 15 GND (power) hidden to GND, 18 VCC (power) hidden to VCC, 21 GND (power) hidden to GND, 28 GND (power) hidden to GND, 31 VCC (power) hidden to VCC, 34 GND (power) hidden to GND, 39 GND (power) hidden to GND, 42 VCC (power) hidden to VCC, 45 GND (power) hidden to GND
part A pins: 1 DIR (in), 2 B1 (io), 3 B2 (io), 5 B3 (io), 6 B4 (io), 8 B5 (io), 9 B6 (io), 11 B7 (io), 12 B8 (io), 37 A8 (io), 38 A7 (io), 40 A6 (io), 41 A5 (io), 43 A4 (io), 44 A3 (io), 46 A2 (io), 47 A1 (io), 48 ~{OE} (in)
part B pins: 13 B1 (io), 14 B2 (io), 16 B3 (io), 17 B4 (io), 19 B5 (io), 20 B6 (io), 22 B7 (io), 23 B8 (io), 24 DIR (in), 25 ~{OE} (in), 26 A8 (io), 27 A7 (io), 29 A6 (io), 30 A5 (io), 32 A4 (io), 33 A3 (io), 35 A2 (io), 36 A1 (io)

## SN74LVTH16245ADL
designator U?
3.3-V ABT 16-Bit Bus Transceiver with 3-State Outputs; Published: 8-Jun-2000; LatestRevisionDate: 04-Mar-2005; LatestRevisionNote: Stylized 3D Model Added.; DatasheetVersion: Apr-1999; PackageVersion: Dec-2001; PackageReference: DL048; Publisher: Altium Limited; PackageDescription: SSOP; 48 Leads; Body Width 7.5 mm; Pitch 0.635 mm; Code_JEDEC: MO-118-AA; Code_IPC: SSO48; ComponentLink1Description: Manufacturer Link; ComponentLink1URL: http://www.ti.com/; ComponentLink2Description: Datasheet; ComponentLink2URL: http://www-s.ti.com/sc/ds/sn74lvth16245a.pdf
footprint DL048 (SSOP; 48 Leads; Body Width 7.5 mm; Pitch 0.635 mm)
3D model DL048 (SSOP; 48 Leads; Body Width 7.5 mm; Pitch 0.635 mm)
pins on every part: 4 GND (power) hidden to GND, 7 VCC (power) hidden to VCC, 10 GND (power) hidden to GND, 15 GND (power) hidden to GND, 18 VCC (power) hidden to VCC, 21 GND (power) hidden to GND, 28 GND (power) hidden to GND, 31 VCC (power) hidden to VCC, 34 GND (power) hidden to GND, 39 GND (power) hidden to GND, 42 VCC (power) hidden to VCC, 45 GND (power) hidden to GND
part A pins: 1 DIR (in), 2 B1 (io), 3 B2 (io), 5 B3 (io), 6 B4 (io), 8 B5 (io), 9 B6 (io), 11 B7 (io), 12 B8 (io), 37 A8 (io), 38 A7 (io), 40 A6 (io), 41 A5 (io), 43 A4 (io), 44 A3 (io), 46 A2 (io), 47 A1 (io), 48 ~{OE} (in)
part B pins: 13 B1 (io), 14 B2 (io), 16 B3 (io), 17 B4 (io), 19 B5 (io), 20 B6 (io), 22 B7 (io), 23 B8 (io), 24 DIR (in), 25 ~{OE} (in), 26 A8 (io), 27 A7 (io), 29 A6 (io), 30 A5 (io), 32 A4 (io), 33 A3 (io), 35 A2 (io), 36 A1 (io)

## SN74LVTH162245DGGR
designator U?
3.3-V ABT 16-Bit Bus Transceiver with 3-State Outputs; Published: 8-Jun-2000; LatestRevisionDate: 04-Mar-2005; LatestRevisionNote: Stylized 3D Model Added.; DatasheetVersion: Apr-1999; PackageVersion: Jan-1998; PackageReference: DGG048; Publisher: Altium Limited; PackageDescription: Shrink Small Outline; 48 Leads; Body Width 6.1 mm; Pitch 0.5 mm; ComponentLink1Description: Manufacturer Link; ComponentLink1URL: http://www.ti.com/; ComponentLink2Description: Datasheet; ComponentLink2URL: http://www-s.ti.com/sc/ds/sn74lvth162245.pdf
footprint DGG048 (Shrink Small Outline; 48 Leads; Body Width 6.1 mm; Pitch 0.5 mm)
3D model DGG048 (Shrink Small Outline; 48 Leads; Body Width 6.1 mm; Pitch 0.5 mm)
pins: 1 1DIR (in), 2 1B1 (io), 3 1B2 (io), 4 GND (power), 5 1B3 (io), 6 1B4 (io), 7 VCC (power), 8 1B5 (io), 9 1B6 (io), 10 GND (power), 11 1B7 (io), 12 1B8 (io), 13 2B1 (io), 14 2B2 (io), 15 GND (power), 16 2B3 (io), 17 2B4 (io), 18 VCC (power), 19 2B5 (io), 20 2B6 (io), 21 GND (power), 22 2B7 (io), 23 2B8 (io), 24 2DIR (in), 25 2~{OE} (in), 26 2A8 (io), 27 2A7 (io), 28 GND (power), 29 2A6 (io), 30 2A5 (io), 31 VCC (power), 32 2A4 (io), 33 2A3 (io), 34 GND (power), 35 2A2 (io), 36 2A1 (io), 37 1A8 (io), 38 1A7 (io), 39 GND (power), 40 1A6 (io), 41 1A5 (io), 42 VCC (power), 43 1A4 (io), 44 1A3 (io), 45 GND (power), 46 1A2 (io), 47 1A1 (io), 48 1~{OE} (in)

## SN74LVTH162245DL
designator U?
3.3-V ABT 16-Bit Bus Transceiver with 3-State Outputs; Published: 8-Jun-2000; LatestRevisionDate: 04-Mar-2005; LatestRevisionNote: Stylized 3D Model Added.; DatasheetVersion: Apr-1999; PackageVersion: Dec-2001; PackageReference: DL048; Publisher: Altium Limited; PackageDescription: SSOP; 48 Leads; Body Width 7.5 mm; Pitch 0.635 mm; Code_JEDEC: MO-118-AA; Code_IPC: SSO48; ComponentLink1Description: Manufacturer Link; ComponentLink1URL: http://www.ti.com/; ComponentLink2Description: Datasheet; ComponentLink2URL: http://www-s.ti.com/sc/ds/sn74lvth162245.pdf
footprint DL048 (SSOP; 48 Leads; Body Width 7.5 mm; Pitch 0.635 mm)
3D model DL048 (SSOP; 48 Leads; Body Width 7.5 mm; Pitch 0.635 mm)
pins: 1 1DIR (in), 2 1B1 (io), 3 1B2 (io), 4 GND (power), 5 1B3 (io), 6 1B4 (io), 7 VCC (power), 8 1B5 (io), 9 1B6 (io), 10 GND (power), 11 1B7 (io), 12 1B8 (io), 13 2B1 (io), 14 2B2 (io), 15 GND (power), 16 2B3 (io), 17 2B4 (io), 18 VCC (power), 19 2B5 (io), 20 2B6 (io), 21 GND (power), 22 2B7 (io), 23 2B8 (io), 24 2DIR (in), 25 2~{OE} (in), 26 2A8 (io), 27 2A7 (io), 28 GND (power), 29 2A6 (io), 30 2A5 (io), 31 VCC (power), 32 2A4 (io), 33 2A3 (io), 34 GND (power), 35 2A2 (io), 36 2A1 (io), 37 1A8 (io), 38 1A7 (io), 39 GND (power), 40 1A6 (io), 41 1A5 (io), 42 VCC (power), 43 1A4 (io), 44 1A3 (io), 45 GND (power), 46 1A2 (io), 47 1A1 (io), 48 1~{OE} (in)

## SN74LVTH182245DGGR
designator U?
3.3-V ABT Scan Test Device with 18-Bit Bus Transceiver; Published: 8-Jun-2000; LatestRevisionDate: 04-Mar-2005; LatestRevisionNote: Stylized 3D Model Added.; DatasheetVersion: Jul-1996; PackageVersion: Jan-1998; PackageReference: DGG056; Publisher: Altium Limited; PackageDescription: Shrink Small Outline; 56 Leads; Body Width 6.1 mm; Pitch 0.5 mm; ComponentLink1Description: Manufacturer Link; ComponentLink1URL: http://www.ti.com/
footprint DGG056 (Shrink Small Outline; 56 Leads; Body Width 6.1 mm; Pitch 0.5 mm)
3D model DGG056 (Shrink Small Outline; 56 Leads; Body Width 6.1 mm; Pitch 0.5 mm)
pins: 1 1DIR (in), 2 1B1 (io), 3 1B2 (io), 4 GND (power), 5 1B3 (io), 6 1B4 (io), 7 VCC (power), 8 1B5 (io), 9 1B6 (io), 10 1B7 (io), 11 GND (power), 12 1B8 (io), 13 1B9 (io), 14 2B1 (io), 15 2B2 (io), 16 2B3 (io), 17 2B4 (io), 18 GND (power), 19 2B5 (io), 20 2B6 (io), 21 2B7 (io), 22 VCC (power), 23 2B8 (io), 24 2B9 (io), 25 GND (power), 26 2DIR, 27 TDO, 28 TMS, 29 TCK, 30 TDI, 31 2~{OE} (in), 32 GND (power), 33 2A9 (io), 34 2A8 (io), 35 VCC (power), 36 2A7 (io), 37 2A6 (io), 38 2A5 (io), 39 GND (power), 40 2A4 (io), 41 2A3 (io), 42 2A2 (io), 43 2A1 (io), 44 9A1 (io), 45 8A1 (io), 46 GND (power), 47 7A1 (io), 48 6A1 (io), 49 5A1 (io), 50 VCC (power), 51 4A1 (io), 52 3A1 (io), 53 GND (power), 54 2A1 (io), 55 1A1 (io), 56 1~{OE} (in)

## SN74LVTH182245DL
designator U?
3.3-V ABT Scan Test Device with 18-Bit Bus Transceiver; Published: 8-Jun-2000; LatestRevisionDate: 04-Mar-2005; LatestRevisionNote: Stylized 3D Model Added.; DatasheetVersion: Jul-1996; PackageVersion: Dec-2001; PackageReference: DL056; Publisher: Altium Limited; PackageDescription: SSOP; 56 Leads; Body Width 7.5 mm; Pitch 0.635 mm; Code_JEDEC: MO-118-AB; Code_IPC: SSO56; ComponentLink1Description: Manufacturer Link; ComponentLink1URL: http://www.ti.com/
footprint DL056 (SSOP; 56 Leads; Body Width 7.5 mm; Pitch 0.635 mm)
3D model DL056 (SSOP; 56 Leads; Body Width 7.5 mm; Pitch 0.635 mm)
pins: 1 1DIR (in), 2 1B1 (io), 3 1B2 (io), 4 GND (power), 5 1B3 (io), 6 1B4 (io), 7 VCC (power), 8 1B5 (io), 9 1B6 (io), 10 1B7 (io), 11 GND (power), 12 1B8 (io), 13 1B9 (io), 14 2B1 (io), 15 2B2 (io), 16 2B3 (io), 17 2B4 (io), 18 GND (power), 19 2B5 (io), 20 2B6 (io), 21 2B7 (io), 22 VCC (power), 23 2B8 (io), 24 2B9 (io), 25 GND (power), 26 2DIR, 27 TDO, 28 TMS, 29 TCK, 30 TDI, 31 2~{OE} (in), 32 GND (power), 33 2A9 (io), 34 2A8 (io), 35 VCC (power), 36 2A7 (io), 37 2A6 (io), 38 2A5 (io), 39 GND (power), 40 2A4 (io), 41 2A3 (io), 42 2A2 (io), 43 2A1 (io), 44 9A1 (io), 45 8A1 (io), 46 GND (power), 47 7A1 (io), 48 6A1 (io), 49 5A1 (io), 50 VCC (power), 51 4A1 (io), 52 3A1 (io), 53 GND (power), 54 2A1 (io), 55 1A1 (io), 56 1~{OE} (in)

## SN75ALS053FN
designator U?
Quad Futurebus Transceiver; ComponentAvailability: Obsolete; Published: 15-May-2002; LatestRevisionDate: 13-Apr-2006; LatestRevisionNote: IPC-7351 Footprint Added.; DatasheetVersion: Sep-1989; PackageVersion: Oct-1994; PackageReference: FN020; Publisher: Altium Limited; PackageDescription: 20-Pin Leaded Chip Carrier 1.27 mm Pitch; Code_IPC: PLCC-20; ComponentLink1Description: Manufacturer Link; ComponentLink1URL: http://www.ti.com/; ComponentLink2Description: Datasheet; ComponentLink2URL: http://www-s.ti.com/sc/ds/sn75als053.pdf
footprint FN020_N (Leaded Chip Carrier, 20-Leads, Body 9x9mm, Pitch 1.27mm, IPC Medium Density)
footprint FN020_L (Leaded Chip Carrier, 20-Leads, Body 9x9mm, Pitch 1.27mm, IPC High Density)
footprint FN020_M (Leaded Chip Carrier, 20-Leads, Body 9x9mm, Pitch 1.27mm, IPC Low Density)
3D model SN75ALS053-FN020 (20-Pin Leaded Chip Carrier 1.27 mm Pitch)
pins: 1 VCC (power), 2 D1 (in), 3 ~{R}1 (hiz), 4 D2 (in), 5 ~{R}2 (hiz), 6 LGND (power), 7 D3 (in), 8 ~{R}3 (hiz), 9 D4 (in), 10 ~{R}4 (hiz), 11 TE (in), 12 ~{RE} (in), 13 BGND (power), 14 ~{B}4 (io), 15 ~{B}3 (io), 16 BGND (power), 17 ~{B}2 (io), 18 ~{B}1 (io), 19 BGND (power), 20 BG GND (power)

## SN75ALS053N
designator U?
Quad Futurebus Transceiver; ComponentAvailability: Obsolete; Published: 15-May-2002; LatestRevisionDate: 04-Mar-2005; LatestRevisionNote: Stylized 3D Model Added.; DatasheetVersion: Sep-1989; PackageVersion: Oct-1995; PackageReference: N020; Publisher: Altium Limited; PackageDescription: DIP; 20 Leads; Row Spacing 7.62 mm; Pitch 2.54 mm; ComponentLink1Description: Manufacturer Link; ComponentLink1URL: http://www.ti.com/; ComponentLink2Description: Datasheet; ComponentLink2URL: http://www-s.ti.com/sc/ds/sn75als053.pdf
footprint N020 (DIP; 20 Leads; Row Spacing 7.62 mm; Pitch 2.54 mm)
3D model J020 (DIP; 20 Leads; Row Spacing 7.62 mm; Pitch 2.54 mm)
pins: 1 VCC (power), 2 D1 (in), 3 ~{R}1 (hiz), 4 D2 (in), 5 ~{R}2 (hiz), 6 LGND (power), 7 D3 (in), 8 ~{R}3 (hiz), 9 D4 (in), 10 ~{R}4 (hiz), 11 TE (in), 12 ~{RE} (in), 13 BGND (power), 14 ~{B}4 (io), 15 ~{B}3 (io), 16 BGND (power), 17 ~{B}2 (io), 18 ~{B}1 (io), 19 BGND (power), 20 BG GND (power)

## SN75ALS056DW
designator U?
Trapezoidal-Waveform Interface Bus Transceiver; Published: 8-Jun-2000; LatestRevisionDate: 13-Apr-2006; LatestRevisionNote: IPC-7351 Footprint Added.; DatasheetVersion: Jun-1990; PackageVersion: Mar-2000; PackageReference: DW020; Publisher: Altium Limited; PackageDescription: 20-Pin Plastic Small Outline Integrated Circuit 1.27 mm Pitch; Code_JEDEC: MS-013; Code_IPC: SOIC127P1030-20; ComponentLink1Description: Manufacturer Link; ComponentLink1URL: http://www.ti.com/; ComponentLink2Description: Datasheet; ComponentLink2URL: http://www-s.ti.com/sc/ds/sn75als056.pdf
footprint DW020_N (SOIC, 20-Leads, Body 12.8x7.5mm, Pitch 1.27mm, IPC Medium Density)
footprint DW020_L (SOIC, 20-Leads, Body 12.8x7.5mm, Pitch 1.27mm, IPC High Density)
footprint DW020_M (SOIC, 20-Leads, Body 12.8x7.5mm, Pitch 1.27mm, IPC Low Density)
3D model DW020 (20-Pin Plastic Small Outline Integrated Circuit 1.27 mm Pitch)
pins: 1 A1 (io), 2 A2 (io), 3 A3 (io), 4 A4 (io), 5 VCC (power), 6 A5 (io), 7 A6 (io), 8 A7 (io), 9 A8 (io), 10 ~{CS} (in), 11 T/~{R} (in), 12 B8 (io), 13 B7 (io), 14 B6 (io), 15 B5 (io), 16 GND (power), 17 B4 (io), 18 B3 (io), 19 B2 (io), 20 B1 (io)

## SN75ALS056N
designator U?
Trapezoidal-Waveform Interface Bus Transceiver; Published: 8-Jun-2000; LatestRevisionDate: 04-Mar-2005; LatestRevisionNote: Stylized 3D Model Added.; DatasheetVersion: Jun-1990; PackageVersion: Oct-1995; PackageReference: N020D; Publisher: Altium Limited; PackageDescription: DIP; 20 Leads; Row Spacing 7.62 mm; Pitch 2.54 mm; ComponentLink1Description: Manufacturer Link; ComponentLink1URL: http://www.ti.com/; ComponentLink2Description: Datasheet; ComponentLink2URL: http://www-s.ti.com/sc/ds/sn75als056.pdf
footprint N020D (DIP; 20 Leads; Row Spacing 7.62 mm; Pitch 2.54 mm)
3D model J020 (DIP; 20 Leads; Row Spacing 7.62 mm; Pitch 2.54 mm)
pins: 1 A1 (io), 2 A2 (io), 3 A3 (io), 4 A4 (io), 5 VCC (power), 6 A5 (io), 7 A6 (io), 8 A7 (io), 9 A8 (io), 10 ~{CS} (in), 11 T/~{R} (in), 12 B8 (io), 13 B7 (io), 14 B6 (io), 15 B5 (io), 16 GND (power), 17 B4 (io), 18 B3 (io), 19 B2 (io), 20 B1 (io)

## SN75ALS057DW
designator U?
Trapezoidal-Waveform Interface Bus Transceiver; Published: 8-Jun-2000; LatestRevisionDate: 13-Apr-2006; LatestRevisionNote: IPC-7351 Footprint Added.; DatasheetVersion: Jun-1990; PackageVersion: Mar-2000; PackageReference: DW020; Publisher: Altium Limited; PackageDescription: 20-Pin Plastic Small Outline Integrated Circuit 1.27 mm Pitch; Code_JEDEC: MS-013; Code_IPC: SOIC127P1030-20; ComponentLink1Description: Manufacturer Link; ComponentLink1URL: http://www.ti.com/; ComponentLink2Description: Datasheet; ComponentLink2URL: http://www-s.ti.com/sc/ds/sn75als056.pdf
footprint DW020_N (SOIC, 20-Leads, Body 12.8x7.5mm, Pitch 1.27mm, IPC Medium Density)
footprint DW020_L (SOIC, 20-Leads, Body 12.8x7.5mm, Pitch 1.27mm, IPC High Density)
footprint DW020_M (SOIC, 20-Leads, Body 12.8x7.5mm, Pitch 1.27mm, IPC Low Density)
3D model DW020 (20-Pin Plastic Small Outline Integrated Circuit 1.27 mm Pitch)
pins: 1 D1 (in), 2 R1 (hiz), 3 D2 (in), 4 R2 (hiz), 5 VCC (power), 6 D3 (in), 7 R3 (hiz), 8 D4 (in), 9 R4 (hiz), 10 ~{TE} (in), 11 ~{RE} (in), 12 E4 (in), 13 B4 (io), 14 E3 (in), 15 B3 (io), 16 GND (power), 17 E2 (in), 18 B2 (io), 19 E1 (in), 20 B1 (io)

## SN75ALS057N
designator U?
Trapezoidal-Waveform Interface Bus Transceiver; Published: 8-Jun-2000; LatestRevisionDate: 04-Mar-2005; LatestRevisionNote: Stylized 3D Model Added.; DatasheetVersion: Jun-1990; PackageVersion: Oct-1995; PackageReference: N020D; Publisher: Altium Limited; PackageDescription: DIP; 20 Leads; Row Spacing 7.62 mm; Pitch 2.54 mm; ComponentLink1Description: Manufacturer Link; ComponentLink1URL: http://www.ti.com/; ComponentLink2Description: Datasheet; ComponentLink2URL: http://www-s.ti.com/sc/ds/sn75als056.pdf
footprint N020D (DIP; 20 Leads; Row Spacing 7.62 mm; Pitch 2.54 mm)
3D model J020 (DIP; 20 Leads; Row Spacing 7.62 mm; Pitch 2.54 mm)
pins: 1 D1 (in), 2 R1 (hiz), 3 D2 (in), 4 R2 (hiz), 5 VCC (power), 6 D3 (in), 7 R3 (hiz), 8 D4 (in), 9 R4 (hiz), 10 ~{TE} (in), 11 ~{RE} (in), 12 E4 (in), 13 B4 (io), 14 E3 (in), 15 B3 (io), 16 GND (power), 17 E2 (in), 18 B2 (io), 19 E1 (in), 20 B1 (io)

## SN75ALS170J
designator U?
Triple Differential Bus Transceiver; Note: Receiver Hysteresis typically 60mV.; ComponentAvailability: Obsolete; Published: 15-May-2002; LatestRevisionDate: 04-Mar-2005; LatestRevisionNote: Stylized 3D Model Added.; DatasheetVersion: May-1990; PackageVersion: Jun-1999; PackageReference: J014; Publisher: Altium Limited; PackageDescription: DIP; 14 Leads; Row Spacing 7.62 mm; Pitch 2.54 mm; ComponentLink1Description: Manufacturer Link; ComponentLink1URL: http://www.ti.com/; ComponentLink2Description: Datasheet; ComponentLink2URL: http://www-s.ti.com/sc/ds/sn75als170.pdf
footprint J014 (DIP; 14 Leads; Row Spacing 7.62 mm; Pitch 2.54 mm)
3D model J014 (DIP; 14 Leads; Row Spacing 7.62 mm; Pitch 2.54 mm)
pins on every part: 3 GND (power) hidden to GND, 12 VCC (power) hidden to VCC
part A pins: 1 1D (io), 2 1DIR (in), 13 1A (io), 14 1~{B} (io)
part B pins: 4 2D (io), 5 2DIR (in), 10 2A (io), 11 2~{B} (io)
part C pins: 6 3D (io), 7 3DIR (in), 8 3A (io), 9 3~{B} (io)

## SN75ALS171J
designator U?
Triple Differential Bus Transceiver; Note: Receiver Hysteresis typically 60mV.; ComponentAvailability: Obsolete; Published: 15-May-2002; LatestRevisionDate: 04-Mar-2005; LatestRevisionNote: Stylized 3D Model Added.; DatasheetVersion: May-1990; PackageVersion: Jun-1999; PackageReference: J020; Publisher: Altium Limited; PackageDescription: DIP; 20 Leads; Row Spacing 7.62 mm; Pitch 2.54 mm; ComponentLink1Description: Manufacturer Link; ComponentLink1URL: http://www.ti.com/; ComponentLink2Description: Datasheet; ComponentLink2URL: http://www-s.ti.com/sc/ds/sn75als171.pdf
footprint J020 (DIP; 20 Leads; Row Spacing 7.62 mm; Pitch 2.54 mm)
3D model J020 (DIP; 20 Leads; Row Spacing 7.62 mm; Pitch 2.54 mm)
pins: 1 1R (hiz), 2 1DE (in), 3 1D (in), 4 GND (power), 5 GND (power), 6 2R (hiz), 7 2DE (in), 8 2D (in), 9 3R (hiz), 10 3DE (in), 11 3D (in), 12 3A (io), 13 3~{B} (io), 14 2A (io), 15 2~{B} (io), 16 VCC (power), 17 CDE (in), 18 ~{RE} (in), 19 1A (io), 20 1~{B} (io)

## SN75ALS176AD
designator U?
Differential Bus Transceiver; Note: Receiver Hysteresis of 60mV Typical; Published: 15-May-2002; LatestRevisionDate: 13-Apr-2006; LatestRevisionNote: IPC-7351 Footprint Added.; DatasheetVersion: May-1990; PackageVersion: Jan-1998; PackageReference: D008; Publisher: Altium Limited; PackageDescription: 8-Pin Small Outline Integrated Circuit 1.27 mm Pitch; Code_IPC: SOIC127P600-8; ComponentLink1Description: Manufacturer Link; ComponentLink1URL: http://www.ti.com/; ComponentLink2Description: Datasheet; ComponentLink2URL: http://www-s.ti.com/sc/ds/sn65als176.pdf
footprint D008_N (SOIC, 8-Leads, Body 4.9x3.9mm, Pitch 1.27mm, IPC Medium Density)
footprint D008_L (SOIC, 8-Leads, Body 4.9x3.9mm, Pitch 1.27mm, IPC High Density)
footprint D008_M (SOIC, 8-Leads, Body 4.9x3.9mm, Pitch 1.27mm, IPC Low Density)
3D model D008 (8-Pin Small Outline Integrated Circuit 1.27 mm Pitch)
pins: 1 R (hiz), 2 ~{RE} (in), 3 DE (in), 4 D (in), 5 GND (power), 6 A (io), 7 ~{B} (io), 8 VCC (power)

## SN75ALS176ADR
designator U?
Differential Bus Transceiver; Note: Receiver Hysteresis of 60mV Typical; Published: 15-May-2002; LatestRevisionDate: 13-Apr-2006; LatestRevisionNote: IPC-7351 Footprint Added.; DatasheetVersion: May-1990; PackageVersion: Jan-1998; PackageReference: D008; Publisher: Altium Limited; PackageDescription: 8-Pin Small Outline Integrated Circuit 1.27 mm Pitch; Code_IPC: SOIC127P600-8; ComponentLink1Description: Manufacturer Link; ComponentLink1URL: http://www.ti.com/; ComponentLink2Description: Datasheet; ComponentLink2URL: http://www-s.ti.com/sc/ds/sn65als176.pdf
footprint D008_N (SOIC, 8-Leads, Body 4.9x3.9mm, Pitch 1.27mm, IPC Medium Density)
footprint D008_L (SOIC, 8-Leads, Body 4.9x3.9mm, Pitch 1.27mm, IPC High Density)
footprint D008_M (SOIC, 8-Leads, Body 4.9x3.9mm, Pitch 1.27mm, IPC Low Density)
3D model D008 (8-Pin Small Outline Integrated Circuit 1.27 mm Pitch)
pins: 1 R (hiz), 2 ~{RE} (in), 3 DE (in), 4 D (in), 5 GND (power), 6 A (io), 7 ~{B} (io), 8 VCC (power)